# Altium footprint library Adams Altium Library.PcbLib: 250 footprints (part 1 of 16)
Each footprint in its own frame and in the unit in brackets; x right, y up, seen from the top. Pads: shape width x height; smd on the part's side, far side on the other; paste and mask are expansions set on the pad; w line width, h text height; cw(c..) or ccw(c..) is an arc to the next point about the centre after c.
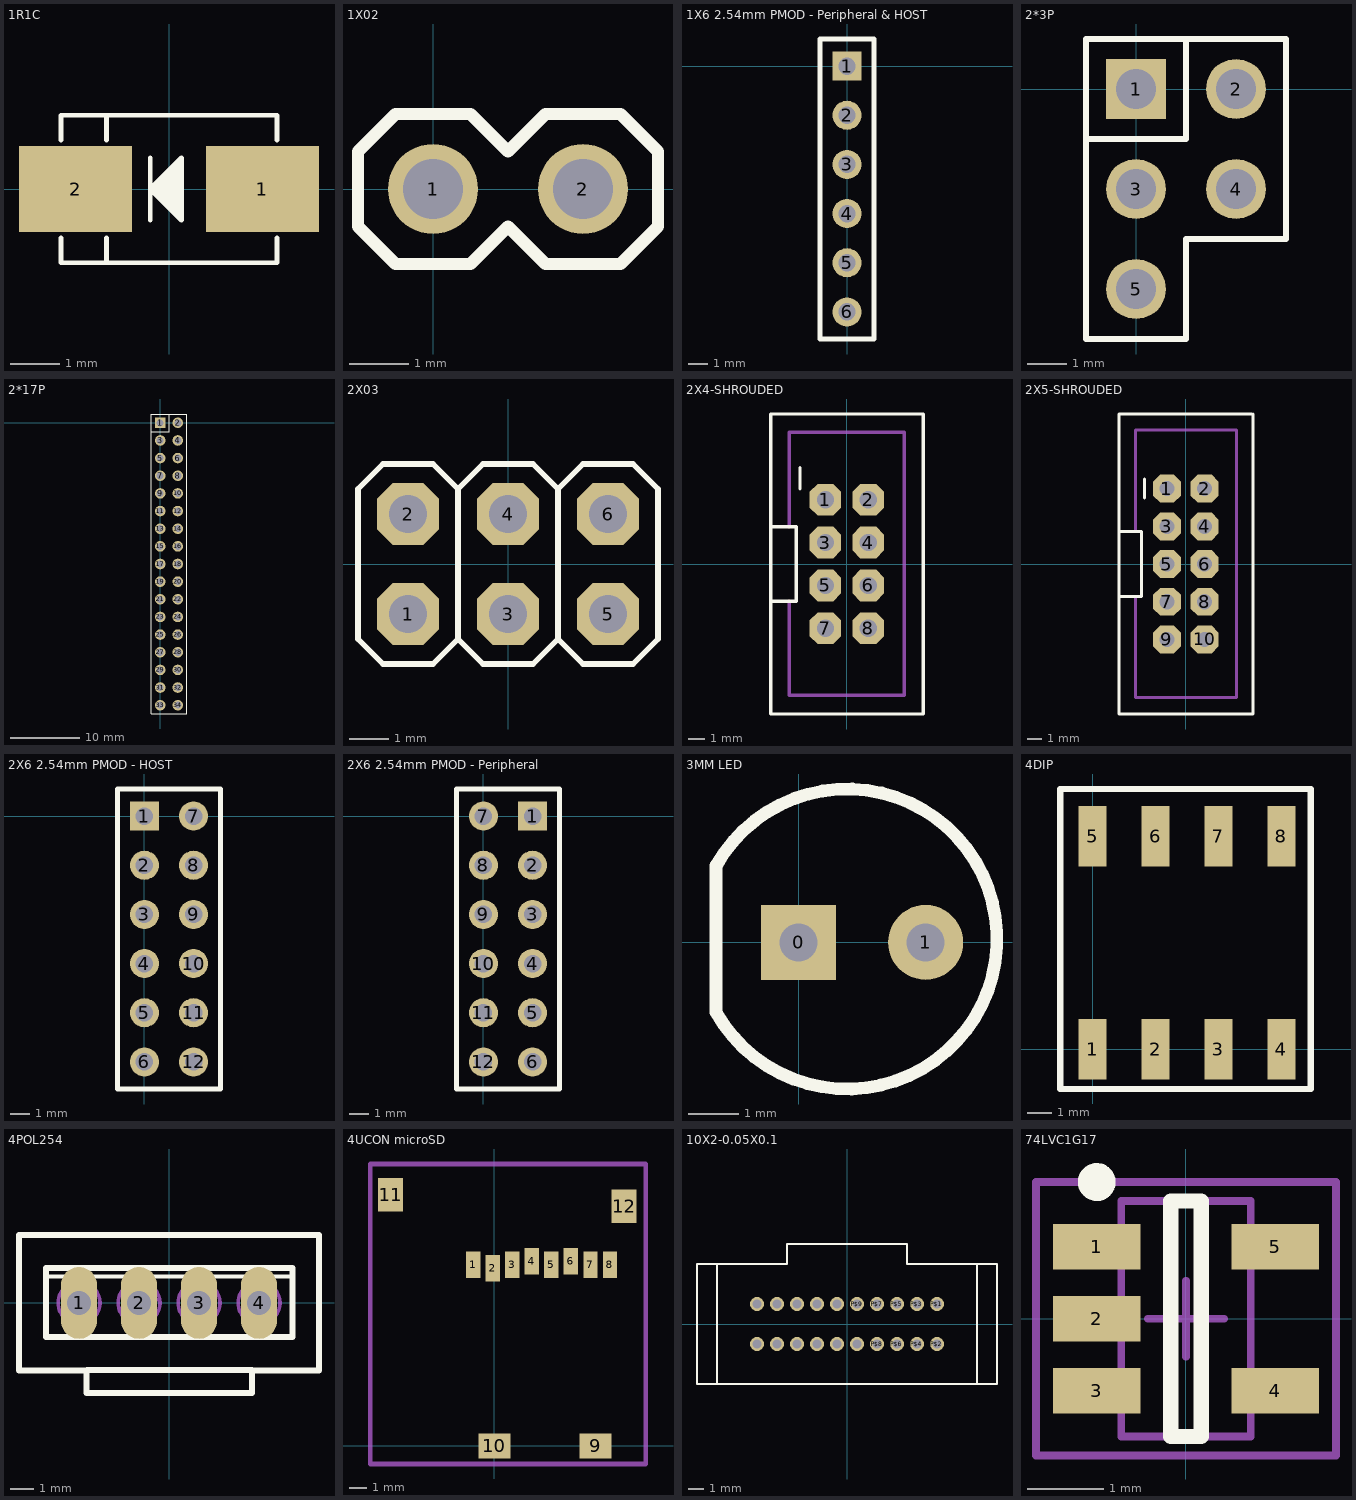
[diagram p0: the footprints below, top view; thin cyan lines are the x and y axes]

## 1R1C [mm]
pads (2):
  rect 2.3x1.75 smd: 1(1.9,0) 2(-1.9,0)
Top Overlay:
  lines w0.1: -2.2,-1 -2.2,-1.5 2.2,-1.5 2.2,-1 ; -2.2,1 -2.2,1.5 2.2,1.5 2.2,1 ; -1.27,-1.5 -1.27,-1 ; -1.27,1 -1.27,1.5 ; -0.381,-0.635 -0.381,0.635 ; -0.381,-0.025 -0.087,-0.025 ; -0.381,0.051 0.071,0.051 ; -0.193,-0.188 -0.193,0.188 ; -0.168,-0.213 -0.168,0.213 ; -0.087,-0.294 -0.087,0.294 ; -0.011,-0.37 -0.011,0.37 ; 0.049,-0.43 0.049,0.43 ; 0.096,-0.477 0.096,0.477 0.183,0.477 0.183,-0.564 ; -0.381,0 0.254,0.635 0.254,-0.635 -0.381,0

## 1X02 [mil]
pads (2):
  round 60 hole 40: 1(0,0) 2(100,0)
Top Overlay:
  lines w8: -50,-25 -50,25 -25,50 25,50 50,25 75,50 125,50 150,25 150,-25 125,-50 75,-50 50,-25 25,-50 -25,-50 -50,-25
Mechanical 16:
  rectangle: 90,-10 110,10
  rectangle: -10,-10 10,10
3D body: height 100, standoff 0, extent -54,-54 154,54
3D body: height 336.22, standoff 0, extent -15,-15 15,15
3D body: height 336.22, standoff 0, extent 85,-15 115,15

## 1X6 2.54mm PMOD - Peripheral & HOST [mm]
pads (6):
  rect 1.5x1.5 hole 0.9: 1(0,0)
  round 1.5 hole 0.9: 2(0,-2.54) 3(0,-5.08) 4(0,-7.62) 5(0,-10.16) 6(0,-12.7)
Top Overlay:
  lines w0.254: -1.397,-14.097 1.397,-14.097 1.397,1.397 -1.397,1.397 -1.397,-14.097

## 2*3P [mil]
pads (5):
  rect 60x60 hole 40: 1(0,0)
  round 60 hole 40: 2(100,0) 3(0,-100) 4(100,-100) 5(0,-200)
Top Overlay:
  lines w6: -50,-50 50,-50 50,50 ; -50,-250 -50,50 150,50 150,-150 50,-150 50,-250 -50,-250

## 2*17P [mil]
pads (34):
  rect 60x60 hole 40: 1(0,0)
  round 60 hole 40: 2(100,0) 3(0,-100) 4(100,-100) 5(0,-200) 6(100,-200) 7(0,-300) 8(100,-300) 9(0,-400) 10(100,-400) 11(0,-500) 12(100,-500) 13(0,-600) 14(100,-600) 15(0,-700) 16(100,-700) 17(0,-800) 18(100,-800) 19(0,-900) 20(100,-900) 21(0,-1000) 22(100,-1000) 23(0,-1100) 24(100,-1100) 25(0,-1200) 26(100,-1200) 27(0,-1300) 28(100,-1300) 29(0,-1400) 30(100,-1400) 31(0,-1500) 32(100,-1500) 33(0,-1600) 34(100,-1600)
Top Overlay:
  lines w6: -50,-50 50,-50 50,50 ; -50,-1650 150,-1650 150,50 -50,50 -50,-1650

## 2X03 [mil]
pads (6):
  oct 62x62 hole 38: 1(-100,-50) 2(-100,50) 3(0,-50) 4(0,50) 5(100,-50) 6(100,50)
Top Overlay:
  lines w6: -50,-75 -50,75 ; -50,-75 -25,-100 25,-100 50,-75 ; -50,-75 -75,-100 -125,-100 -150,-75 -150,75 -125,100 -75,100 -50,75 ; -50,75 -25,100 25,100 50,75 ; 50,-75 75,-100 125,-100 150,-75 150,75 125,100 75,100 50,75 ; 50,-75 50,75
Mechanical 16:
  rectangle: 90,-60 110,-40
  rectangle: 90,40 110,60
  rectangle: -10,-60 10,-40
  rectangle: -10,40 10,60
  rectangle: -110,40 -90,60
  rectangle: -110,-60 -90,-40
3D body: height 336.22, standoff 0, extent 85,-65 115,-35
3D body: height 336.22, standoff 0, extent -15,-65 15,-35
3D body: height 336.22, standoff 0, extent -115,-65 -85,-35
3D body: height 336.22, standoff 0, extent 85,35 115,65
3D body: height 336.22, standoff 0, extent -15,35 15,65
3D body: height 336.22, standoff 0, extent -115,35 -85,65
3D body: height 100, standoff 0, extent -153,-103 153,103

## 2X4-SHROUDED [mil]
pads (8):
  oct 74x74 hole 40: 1(-50,150) 2(50,150) 3(-50,50) 4(50,50) 5(-50,-50) 6(50,-50) 7(-50,-150) 8(50,-150)
Top Overlay:
  lines w8: -109.25,175 -109.25,225 ; -177.17,-86.61 -118.11,-86.61 -118.11,87 -177.17,87 ; -177.17,-86.61 -177.17,87 ; -177.17,-86.61 -177.17,-350 178,-350 178,350 -177.17,350 -177.17,87
Mechanical 16:
  rectangle: 40,-160 60,-140
  rectangle: -60,-160 -40,-140
  rectangle: -60,-160 -40,-140
  rectangle: 40,-160 60,-140
  rectangle: -60,-60 -40,-40
  rectangle: 40,-60 60,-40
  rectangle: -60,40 -40,60
  rectangle: 40,40 60,60
  rectangle: 40,140 60,160
  rectangle: -60,140 -40,160
  lines w8: -133.86,-86.61 -133.86,-306.69 134,-306.69 134,307 -133.86,307 -133.86,87
3D body: height 590.55, standoff 0, extent -181.17,-354 182,354

## 2X5-SHROUDED [mil]
pads (10):
  oct 74x74 hole 40: 1(-50,200) 2(50,200) 3(-50,100) 4(50,100) 5(-50,0) 6(50,0) 7(-50,-100) 8(50,-100) 9(-50,-200) 10(50,-200)
Top Overlay:
  lines w8: -109.25,175 -109.25,225 ; 174,398 -177.17,398 -177.17,87 ; 178,398 178,-397.64 -177.17,-397.64 -177.17,-86.61 ; -177.17,-86.61 -118.11,-86.61 -118.11,87 -177.17,87 ; -177.17,-86.61 -177.17,87
Mechanical 16:
  rectangle: 40,-110 60,-90
  rectangle: -60,-110 -40,-90
  rectangle: -60,-210 -40,-190
  rectangle: 40,-210 60,-190
  rectangle: -60,-110 -40,-90
  rectangle: 40,-110 60,-90
  rectangle: -60,-10 -40,10
  rectangle: 40,-10 60,10
  rectangle: -60,90 -40,110
  rectangle: 40,90 60,110
  rectangle: 40,190 60,210
  rectangle: -60,190 -40,210
  lines w8: -133.86,-86.61 -133.86,-354.33 134,-354.33 134,355 -133.86,355 -133.86,87

## 2X6 2.54mm PMOD - HOST [mm]
pads (12):
  rect 1.5x1.5 hole 0.9: 1(0,0)
  round 1.5 hole 0.9: 2(0,-2.54) 3(0,-5.08) 4(0,-7.62) 5(0,-10.16) 6(0,-12.7) 7(2.54,0) 8(2.54,-2.54) 9(2.54,-5.08) 10(2.54,-7.62) 11(2.54,-10.16) 12(2.54,-12.7)
Top Overlay:
  lines w0.254: -1.397,-14.097 3.937,-14.097 3.937,1.397 -1.397,1.397 -1.397,-14.097

## 2X6 2.54mm PMOD - Peripheral [mm]
pads (12):
  rect 1.5x1.5 hole 0.9: 1(2.54,0)
  round 1.5 hole 0.9: 2(2.54,-2.54) 3(2.54,-5.08) 4(2.54,-7.62) 5(2.54,-10.16) 6(2.54,-12.7) 7(0,0) 8(0,-2.54) 9(0,-5.08) 10(0,-7.62) 11(0,-10.16) 12(0,-12.7)
Top Overlay:
  lines w0.254: -1.397,-14.097 3.937,-14.097 3.937,1.397 -1.397,1.397 -1.397,-14.097

## 3MM LED [mm]
pads (2):
  rect 1.5x1.5 hole 0.762: 0(0,0)
  round 1.5 hole 0.762: 1(2.54,0)
Top Overlay:
  lines w0.254: -1.651,1.537 -1.651,-1.397 ccw(c0.967,0.068) -1.645,1.543

## 4DIP [mm]
pads (8):
  rect 1.13x2.44 all layers, no hole: 1(0,0) 2(2.54,0) 3(5.08,0) 4(7.62,0) 5(0,8.6) 6(2.54,8.6) 7(5.08,8.6) 8(7.62,8.6)
Top Overlay:
  lines w0.254: -1.3,-1.6 -1.3,10.5 8.8,10.5 8.8,-1.6 -1.3,-1.6

## 4POL254 [mil]
pads (4):
  oval 60x120 hole 40: 1(-150,0) 2(-50,0) 3(50,0) 4(150,0)
Top Overlay:
  lines w6: -200.79,44 201,44
  lines w10: -136.77,-112.22 138.73,-112.22 ; -250,-112.5 -137.5,-112.5 -137.5,-150 138,-150 138,-112.5 250,-112.5 250,113 -250,113 -250,-112.5 ; -205.12,-57.09 -205.12,58 206,58 206,-57.09 -205.12,-57.09
Mechanical 16:
  circle w6: c150,0 r35
  circle w6: c50,0 r35
  circle w6: c-50,0 r35
  circle w6: c-150,0 r35
  lines w6: -175,-20 -130,25 ; -80,-10 -20,5 ; 30,25 70,-25 ; 120,15 180,-15
3D body: height 454.33, standoff 118.11, extent -249.98,-149.98 249.98,112.98
3D body: height 118.11, standoff 0, extent -249.98,-112.48 249.98,112.98

## 4UCON microSD [mm]
pads (12):
  rect 0.8x1.5 smd: 1(-1.2,10.2) 2(-0.1,10) 3(1,10.2) 4(2.1,10.4) 5(3.2,10.2) 6(4.3,10.4) 7(5.4,10.2) 8(6.5,10.2)
  rect 1.8x1.4 smd: 9(5.7,0) 10(0,0)
  rect 1.4x1.9 smd: 11(-5.85,14.15) 12(7.3,13.5)
Mechanical 13:
  lines w0.254: -6.985,-1.016 8.509,-1.016 8.509,15.875 -6.985,15.875 -6.985,-1.016

## 10X2-0.05X0.1 [mil]
pads (20):
  round 35 hole 22: P$1(225,50) P$2(225,-50) P$3(175,50) P$4(175,-50) P$5(125,50) P$6(125,-50) P$7(75,50) P$8(75,-50) P$9(25,50) P$10(25,-50) P$11(-25,50) P$12(-25,-50) P$13(-75,50) P$14(-75,-50) P$15(-125,50) P$16(-125,-50) P$17(-175,50) P$18(-175,-50) P$19(-225,50) P$20(-225,-50)
Top Overlay:
  lines w5: -325,-150 -375,-150 -375,150 -325,150 ; -325,-150 -325,150 ; -325,-150 325,-150 ; -325,150 -150,150 -150,200 150,200 150,150 325,150 ; 325,-150 375,-150 375,150 325,150 ; 325,-150 325,150
3D body: height 590.55, standoff 0, extent 325.02,-149.98 374.98,149.98
3D body: height 590.55, standoff 0, extent -374.98,-149.98 -325.02,149.98
3D body: height 511.81, standoff 0, extent -324.98,-149.98 324.98,199.98

## 74LVC1G17 [mm]
height 0.9
pads (5):
  rect 1.15x0.6 smd: 1(-1.175,0.95) 2(-1.175,0) 3(-1.175,-0.95) 4(1.175,-0.95) 5(1.175,0.95)
Top Overlay:
  circle w0.25: c-1.175,1.8 r0.125
  lines w0.2: -0.2,-1.55 0.2,-1.55 0.2,1.55 -0.2,1.55 -0.2,-1.55
Mechanical 13:
  lines w0.1: -0.85,-1.55 -0.85,1.55 0.85,1.55 0.85,-1.55 -0.85,-1.55
Mechanical 15:
  lines w0.1: -0.5,0 0.5,0 ; 0,-0.5 0,0.5 ; -1.975,-1.8 -1.975,1.8 1.975,1.8 1.975,-1.8 -1.975,-1.8
3D body: height 1.1, standoff 0.9, extent -0.85,-1.55 0.85,1.55